# Altium schematic symbol library SBCarrierBoard.SchLib: 11 symbols
Pins are listed as number, name and electrical type; pins without a type are passive.

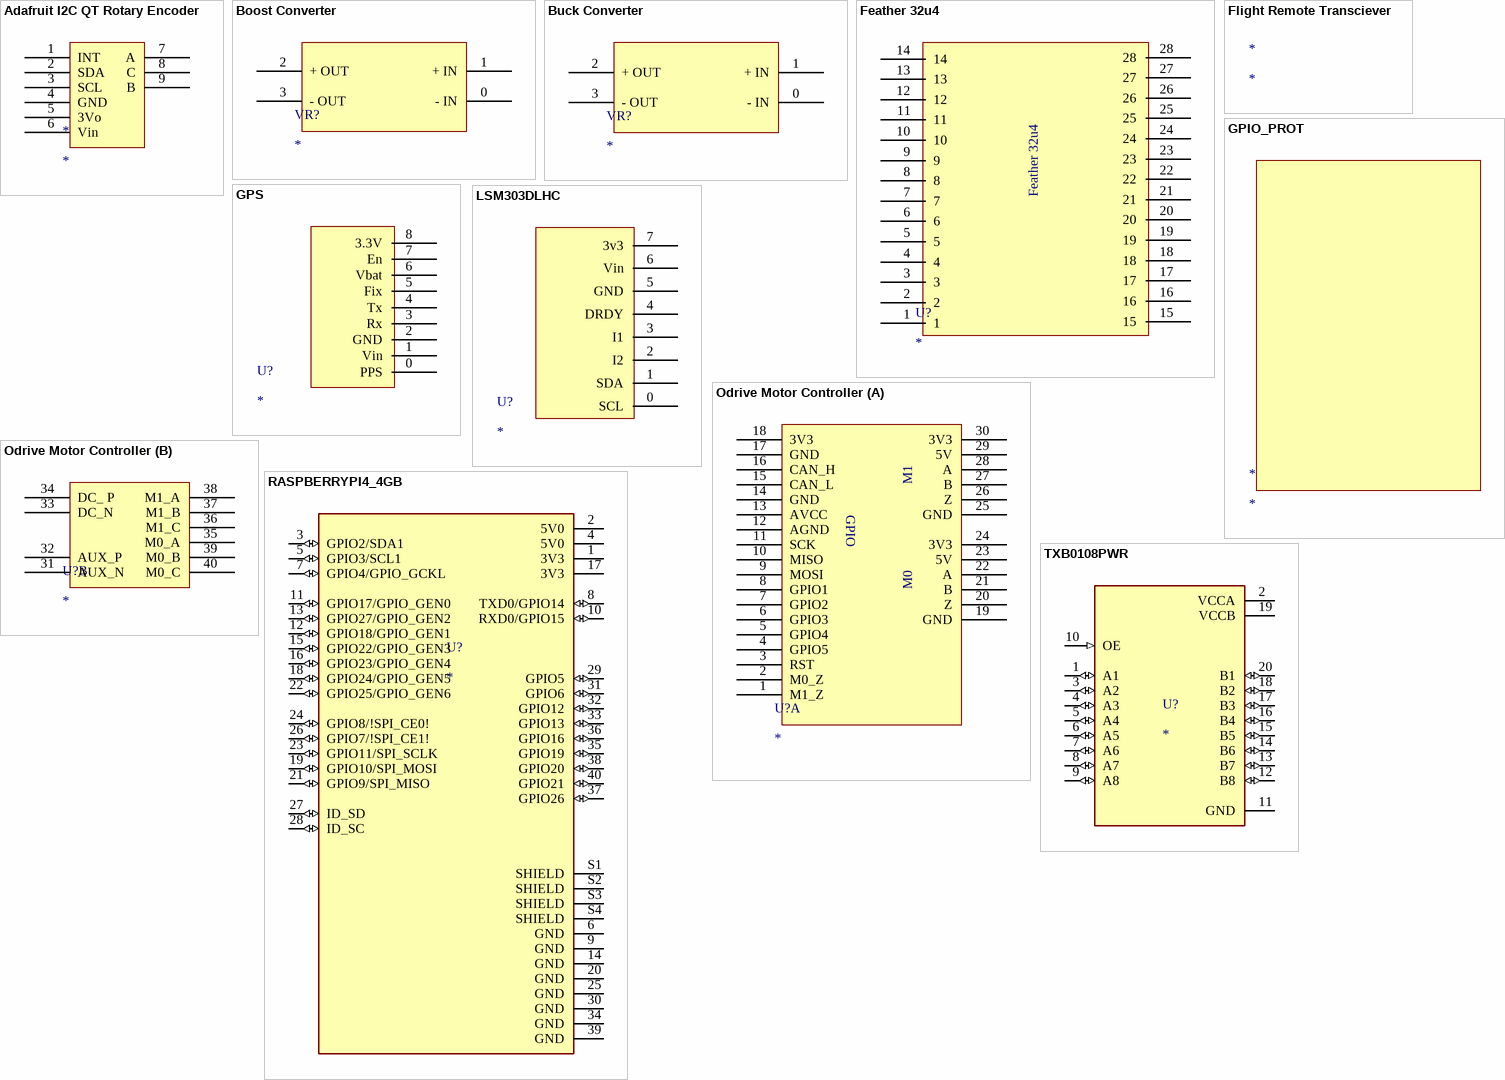
[diagram p0: symbols Adafruit I2C QT Rotary Encoder to TXB0108PWR]

## Adafruit I2C QT Rotary Encoder
designator *
pins: 1 INT, 2 SDA, 3 SCL, 4 GND, 5 3Vo, 6 Vin, 7 A, 8 C, 9 B

## Boost Converter
designator VR?
footprint Boost Pad
pins: 0 - IN, 1 + IN, 2 + OUT, 3 - OUT

## Buck Converter
designator VR?
footprint BUCK Pad
pins: 0 - IN, 1 + IN, 2 + OUT, 3 - OUT

## Feather 32u4
designator U?
footprint LoRa32u4
pins: 1, 2, 3, 4, 5, 6, 7, 8, 9, 10, 11, 12, 13, 14, 15, 16, 17, 18, 19, 20, 21, 22, 23, 24, 25, 26, 27, 28

## Flight Remote Transciever
designator *

## GPIO_PROT
designator *

## GPS
designator U?
footprint GPS Pad
pins: 0 PPS, 1 Vin, 2 GND, 3 Rx, 4 Tx, 5 Fix, 6 Vbat, 7 En, 8 3.3V

## LSM303DLHC
designator U?
pins: 0 SCL, 1 SDA, 2 I2, 3 I1, 4 DRDY, 5 GND, 6 Vin, 7 3v3

## Odrive Motor Controller
designator U?
footprint Odrive Motor Controller Mount
part A pins: 1 M1_Z, 2 M0_Z, 3 RST, 4 GPIO5, 5 GPIO4, 6 GPIO3, 7 GPIO2, 8 GPIO1, 9 MOSI, 10 MISO, 11 SCK, 12 AGND, 13 AVCC, 14 GND, 15 CAN_L, 16 CAN_H, 17 GND, 18 3V3, 19 GND, 20 Z, 21 B, 22 A, 23 5V, 24 3V3, 25 GND, 26 Z, 27 B, 28 A, 29 5V, 30 3V3
part B pins: 31 AUX_N, 32 AUX_P, 33 DC_N, 34 DC_ P, 35 M0_A, 36 M1_C, 37 M1_B, 38 M1_A, 39 M0_B, 40 M0_C
part A text: M1; GPIO; M0

## RASPBERRYPI4_4GB
designator U?
BCM2711 Raspberry Pi 4 Model B 4GB - ARMÂ® CortexÂ®-A72 MPU Embedded Evaluation Board; MF: Raspberry Pi Foundation (NF); MP: RASPBERRYPI4 4GB; Price: None; Availability: Unavailable; Package: None; SnapEDA_Link: https://www.snapeda.com/parts/RASPBERRYPI4%204GB/Raspberry%20Pi/view-part/3832294/?ref=snap; Value: *
footprint RPi Pad
pins: 1 3V3 (power), 2 5V0 (power), 3 GPIO2/SDA1 (io), 4 5V0 (power), 5 GPIO3/SCL1 (io), 6 GND (power), 7 GPIO4/GPIO_GCKL (io), 8 TXD0/GPIO14 (io), 9 GND (power), 10 RXD0/GPIO15 (io), 11 GPIO17/GPIO_GEN0 (io), 12 GPIO18/GPIO_GEN1 (io), 13 GPIO27/GPIO_GEN2 (io), 14 GND (power), 15 GPIO22/GPIO_GEN3 (io), 16 GPIO23/GPIO_GEN4 (io), 17 3V3 (power), 18 GPIO24/GPIO_GEN5 (io), 19 GPIO10/SPI_MOSI (io), 20 GND (power), 21 GPIO9/SPI_MISO (io), 22 GPIO25/GPIO_GEN6 (io), 23 GPIO11/SPI_SCLK (io), 24 GPIO8/!SPI_CE0! (io), 25 GND (power), 26 GPIO7/!SPI_CE1! (io), 27 ID_SD (io), 28 ID_SC (io), 29 GPIO5 (io), 30 GND (power), 31 GPIO6 (io), 32 GPIO12 (io), 33 GPIO13 (io), 34 GND (power), 35 GPIO19 (io), 36 GPIO16 (io), 37 GPIO26 (io), 38 GPIO20 (io), 39 GND (power), 40 GPIO21 (io), S1 SHIELD (power), S2 SHIELD (power), S3 SHIELD (power), S4 SHIELD (power)

## TXB0108PWR
designator U?
8-Bit Bidirectional Voltage-Level Shifter with Auto Direction Sensing and +/-15-kV ESD Protect 20-TSSOP -40 to 85; MF: Texas Instruments; MP: TXB0108PWR; Package: TSSOP-20 Texas Instruments; Value: *; Check_prices: https://www.snapeda.com/parts/TXB0108PWR/Texas%20Instruments/view-part/45111/?ref=eda; Purchase-URL: https://pricing.snapeda.com/search/part/TXB0108PWR/?ref=eda; Availability: Warning; SnapEDA_Link: https://www.snapeda.com/parts/TXB0108PWR/Texas%20Instruments/view-part/45111/?ref=snap; Price: None
pins: 1 A1 (io), 2 VCCA (power), 3 A2 (io), 4 A3 (io), 5 A4 (io), 6 A5 (io), 7 A6 (io), 8 A7 (io), 9 A8 (io), 10 OE (in), 11 GND (power), 12 B8 (io), 13 B7 (io), 14 B6 (io), 15 B5 (io), 16 B4 (io), 17 B3 (io), 18 B2 (io), 19 VCCB (power), 20 B1 (io)